# Altium integrated library B6B-PH-SM4-TB_LF__SN_.IntLib: 1 symbol
Pins are listed as number, name and electrical type; pins without a type are passive.

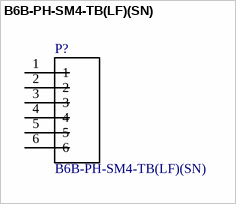
[diagram p0: symbol B6B-PH-SM4-TB(LF)(SN)]

## B6B-PH-SM4-TB(LF)(SN)
designator P?
/ Connector Header Surface Mount 6 position 0.079 _2.00mm_ /; MP: B6B-PH-SM4-TB_LF__SN_; MF: JST Sales; SnapEDA_Link: https://www.snapeda.com/parts/B6B-PH-SM4-TB%28LF%29%28SN%29/JST%20Sales%20America%20Inc./view-part/52131/?ref=snap; Availability: Unavailable; Price: None; Package: None; Value: *
footprint *JST_B6B-PH-SM4-TB(LF)(SN)
pins: 1, 2, 3, 4, 5, 6